# EAGLE library part TMS320F28379DZWTS (library QUAD_ICs)
MCU TMS320F28379D
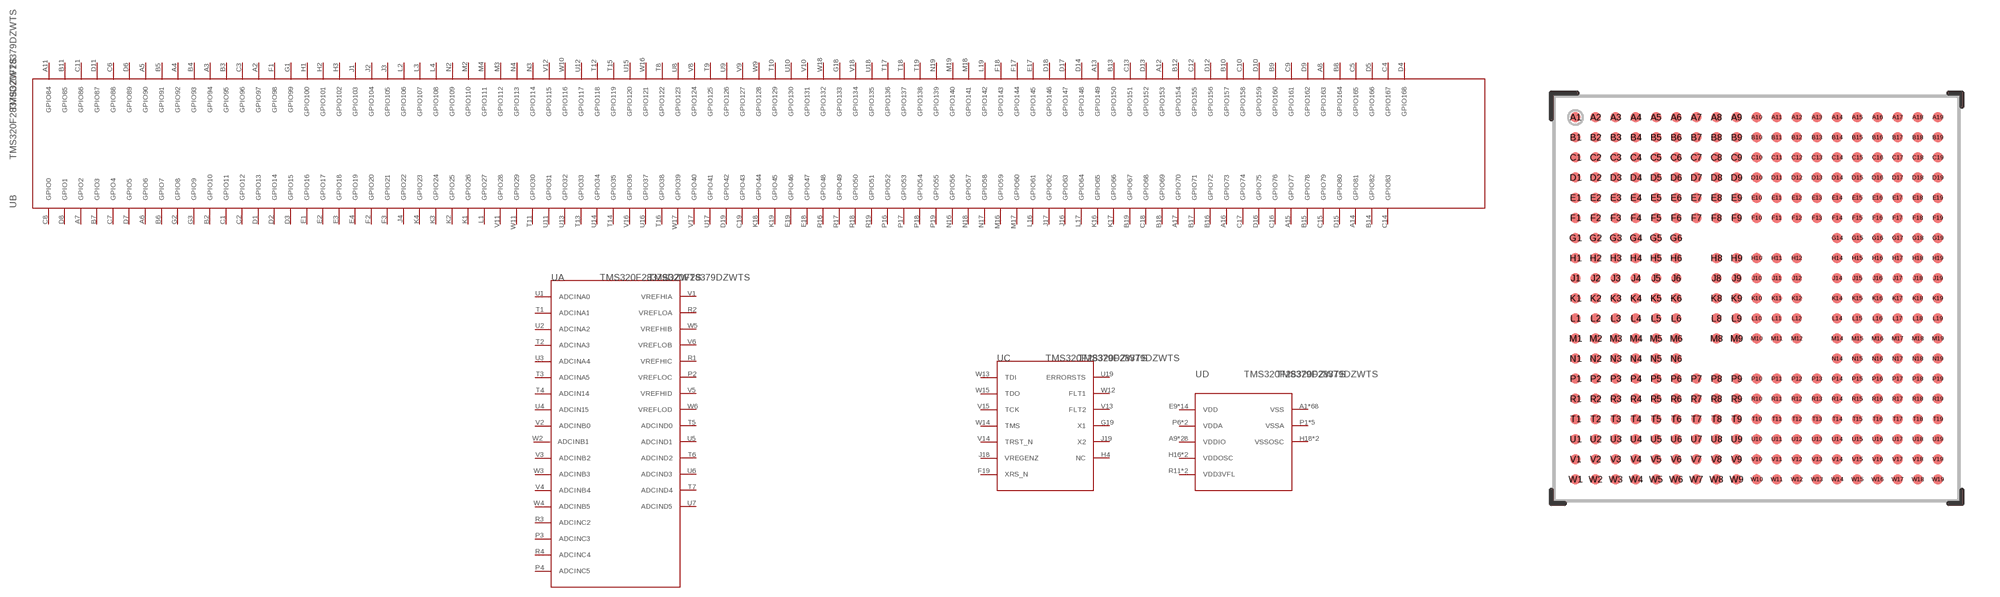
[diagram p5: symbol with the pads of ZWT0337A; footprint ZWT0337A]

Designator prefix U; gates A=TMS320F28379ZWT_A B=TMS320F28379ZWT_B C=TMS320F28379ZWT_C D=TMS320F28379ZWT_D

## TMS320F28379DZWTS (MANUFACTURER: Texas Instruments; PARTNUMBER: TMS320F28379DZWTS; REFDES: RefDes; TYPE: TYPE; VALUE: Value)  [ZWT0337A]
A1  D:VSS  pwr
A2  B:GPIO97
A3  B:GPIO94
A4  B:GPIO92
A5  B:GPIO90
A6  B:GPIO6
A7  B:GPIO2
A8  B:GPIO163
A9  D:VDDIO  pwr
A10  D:VSS  pwr
A11  B:GPIO84
A12  B:GPIO153
A13  B:GPIO149
A14  B:GPIO81
A15  B:GPIO77
A16  B:GPIO73
A17  B:GPIO70
A18  D:VDDIO  pwr
A19  D:VSS  pwr
B1  D:VDDIO  pwr
B2  B:GPIO10
B3  B:GPIO95
B4  B:GPIO93
B5  B:GPIO91
B6  B:GPIO7
B7  B:GPIO3
B8  B:GPIO164
B9  B:GPIO160
B10  B:GPIO157
B11  B:GPIO85
B12  B:GPIO154
B13  B:GPIO150
B14  B:GPIO82
B15  B:GPIO78
B16  B:GPIO72
B17  B:GPIO71
B18  B:GPIO69
B19  B:GPIO67
C1  B:GPIO11
C2  B:GPIO12
C3  B:GPIO96
C4  B:GPIO167
C5  B:GPIO165
C6  B:GPIO88
C7  B:GPIO4
C8  B:GPIO0
C9  B:GPIO161
C10  B:GPIO158
C11  B:GPIO86
C12  B:GPIO155
C13  B:GPIO151
C14  B:GPIO83
C15  B:GPIO79
C16  B:GPIO76
C17  B:GPIO74
C18  B:GPIO68
C19  B:GPIO43
D1  B:GPIO13
D2  B:GPIO14
D3  B:GPIO15
D4  B:GPIO168
D5  B:GPIO166
D6  B:GPIO89
D7  B:GPIO5
D8  B:GPIO1
D9  B:GPIO162
D10  B:GPIO159
D11  B:GPIO87
D12  B:GPIO156
D13  B:GPIO152
D14  B:GPIO148
D15  B:GPIO80
D16  B:GPIO75
D17  B:GPIO147
D18  B:GPIO146
D19  B:GPIO42
E1  B:GPIO16
E2  B:GPIO17
E3  B:GPIO18
E4  B:GPIO19
E5  D:VSS  pwr
E6  D:VSS  pwr
E7  D:VDDIO  pwr
E8  D:VSS  pwr
E9  D:VDD  pwr
E10  D:VDDIO  pwr
E11  D:VDD  pwr
E12  D:VSS  pwr
E13  D:VDDIO  pwr
E14  D:VSS  pwr
E15  D:VSS  pwr
E16  D:VDDIO  pwr
E17  B:GPIO145
E18  B:GPIO47
E19  B:GPIO46
F1  B:GPIO98
F2  B:GPIO20
F3  B:GPIO21
F4  D:VDDIO  pwr
F5  D:VSS  pwr
F6  D:VSS  pwr
F7  D:VDDIO  pwr
F8  D:VSS  pwr
F9  D:VDD  pwr
F10  D:VDDIO  pwr
F11  D:VDD  pwr
F12  D:VSS  pwr
F13  D:VDDIO  pwr
F14  D:VSS  pwr
F15  D:VSS  pwr
F16  D:VDDIO  pwr
F17  B:GPIO144
F18  B:GPIO143
F19  C:XRS_N
G1  B:GPIO99
G2  B:GPIO8
G3  B:GPIO9
G4  D:VDDIO  pwr
G5  D:VDDIO  pwr
G6  D:VDDIO  pwr
G14  D:VDD  pwr
G15  D:VDD  pwr
G16  D:VSS  pwr
G17  D:VSS  pwr
G18  B:GPIO133
G19  C:X1  in
H1  B:GPIO100
H2  B:GPIO101
H3  B:GPIO102
H4  C:NC  pas
H5  D:VDDIO  pwr
H6  D:VDDIO  pwr
H8  D:VSS  pwr
H9  D:VSS  pwr
H10  D:VSS  pwr
H11  D:VSS  pwr
H12  D:VSS  pwr
H14  D:VSS  pwr
H15  D:VSS  pwr
H16  D:VDDOSC  pwr
H17  D:VDDOSC  pwr
H18  D:VSSOSC  pwr
H19  D:VSSOSC  pwr
J1  B:GPIO103
J2  B:GPIO104
J3  B:GPIO105
J4  B:GPIO22
J5  D:VSS  pwr
J6  D:VSS  pwr
J8  D:VSS  pwr
J9  D:VSS  pwr
J10  D:VSS  pwr
J11  D:VSS  pwr
J12  D:VSS  pwr
J14  D:VDD  pwr
J15  D:VDD  pwr
J16  B:GPIO63
J17  B:GPIO62
J18  C:VREGENZ  in
J19  C:X2  out
K1  B:GPIO26
K2  B:GPIO25
K3  B:GPIO24
K4  B:GPIO23
K5  D:VDD  pwr
K6  D:VDD  pwr
K8  D:VSS  pwr
K9  D:VSS  pwr
K10  D:VSS  pwr
K11  D:VSS  pwr
K12  D:VSS  pwr
K14  D:VSS  pwr
K15  D:VSS  pwr
K16  B:GPIO65
K17  B:GPIO66
K18  B:GPIO44
K19  B:GPIO45
L1  B:GPIO27
L2  B:GPIO106
L3  B:GPIO107
L4  B:GPIO108
L5  D:VSS  pwr
L6  D:VSS  pwr
L8  D:VSS  pwr
L9  D:VSS  pwr
L10  D:VSS  pwr
L11  D:VSS  pwr
L12  D:VSS  pwr
L14  D:VDDIO  pwr
L15  D:VDDIO  pwr
L16  B:GPIO61
L17  B:GPIO64
L18  D:VSS  pwr
L19  B:GPIO142
M1  D:VDDIO  pwr
M2  B:GPIO110
M3  B:GPIO112
M4  B:GPIO111
M5  D:VDDIO  pwr
M6  D:VDDIO  pwr
M8  D:VSS  pwr
M9  D:VSS  pwr
M10  D:VSS  pwr
M11  D:VSS  pwr
M12  D:VSS  pwr
M14  D:VSS  pwr
M15  D:VSS  pwr
M16  B:GPIO59
M17  B:GPIO60
M18  B:GPIO141
M19  B:GPIO140
N1  D:VSS  pwr
N2  B:GPIO109
N3  B:GPIO114
N4  B:GPIO113
N5  D:VSS  pwr
N6  D:VSS  pwr
N14  D:VDDIO  pwr
N15  D:VDDIO  pwr
N16  B:GPIO56
N17  B:GPIO58
N18  B:GPIO57
N19  B:GPIO139
P1  D:VSSA  pwr
P2  A:VREFLOC  in
P3  A:ADCINC3  in
P4  A:ADCINC5  in
P5  D:VSSA  pwr
P6  D:VDDA  pwr
P7  D:VSS  pwr
P8  D:VSS  pwr
P9  D:VDDIO  pwr
P10  D:VDD  pwr
P11  D:VSS  pwr
P12  D:VSS  pwr
P13  D:VDD  pwr
P14  D:VSS  pwr
P15  D:VSS  pwr
P16  B:GPIO52
P17  B:GPIO53
P18  B:GPIO54
P19  B:GPIO55
R1  A:VREFHIC  in
R2  A:VREFLOA  in
R3  A:ADCINC2  in
R4  A:ADCINC4  in
R5  D:VSSA  pwr
R6  D:VDDA  pwr
R7  D:VSS  pwr
R8  D:VSS  pwr
R9  D:VDDIO  pwr
R10  D:VDD  pwr
R11  D:VDD3VFL  pwr
R12  D:VDD3VFL  pwr
R13  D:VDD  pwr
R14  D:VSS  pwr
R15  D:VSS  pwr
R16  B:GPIO48
R17  B:GPIO49
R18  B:GPIO50
R19  B:GPIO51
T1  A:ADCINA1  in
T2  A:ADCINA3  in
T3  A:ADCINA5  in
T4  A:ADCIN14  in
T5  A:ADCIND0  in
T6  A:ADCIND2  in
T7  A:ADCIND4  in
T8  B:GPIO122
T9  B:GPIO125
T10  B:GPIO129
T11  B:GPIO30
T12  B:GPIO118
T13  B:GPIO33
T14  B:GPIO35
T15  B:GPIO119
T16  B:GPIO38
T17  B:GPIO136
T18  B:GPIO137
T19  B:GPIO138
U1  A:ADCINA0  in
U2  A:ADCINA2  in
U3  A:ADCINA4  in
U4  A:ADCIN15  in
U5  A:ADCIND1  in
U6  A:ADCIND3  in
U7  A:ADCIND5  in
U8  B:GPIO123
U9  B:GPIO126
U10  B:GPIO130
U11  B:GPIO31
U12  B:GPIO117
U13  B:GPIO32
U14  B:GPIO34
U15  B:GPIO120
U16  B:GPIO37
U17  B:GPIO41
U18  B:GPIO135
U19  C:ERRORSTS  out
V1  A:VREFHIA  in
V2  A:ADCINB0  in
V3  A:ADCINB2  in
V4  A:ADCINB4  in
V5  A:VREFHID  in
V6  A:VREFLOB  in
V7  D:VSSA  pwr
V8  B:GPIO124
V9  B:GPIO127
V10  B:GPIO131
V11  B:GPIO28
V12  B:GPIO115
V13  C:FLT2
V14  C:TRST_N  in
V15  C:TCK  in
V16  B:GPIO36
V17  B:GPIO40
V18  B:GPIO134
V19  D:VDDIO  pwr
W1  D:VSSA  pwr
W2  A:ADCINB1  in
W3  A:ADCINB3  in
W4  A:ADCINB5  in
W5  A:VREFHIB  in
W6  A:VREFLOD  in
W7  D:VSS  pwr
W8  D:VDDIO  pwr
W9  B:GPIO128
W10  B:GPIO116
W11  B:GPIO29
W12  C:FLT1
W13  C:TDI  in
W14  C:TMS  in
W15  C:TDO  out
W16  B:GPIO121
W17  B:GPIO39
W18  B:GPIO132
W19  D:VSS  pwr

## Footprint ZWT0337A (pad centres in mm)
smd 0.4 x 0.4: A1 -7.2,7.2; A2 -6.4,7.2; A3 -5.6,7.2; A4 -4.8,7.2; A5 -4,7.2; A6 -3.2,7.2; A7 -2.4,7.2; A8 -1.6,7.2; A9 -0.8,7.2; A10 0,7.2; A11 0.8,7.2; A12 1.6,7.2; A13 2.4,7.2; A14 3.2,7.2; A15 4,7.2; A16 4.8,7.2; A17 5.6,7.2; A18 6.4,7.2; A19 7.2,7.2; B1 -7.2,6.4; B2 -6.4,6.4; B3 -5.6,6.4; B4 -4.8,6.4; B5 -4,6.4; B6 -3.2,6.4; B7 -2.4,6.4; B8 -1.6,6.4; B9 -0.8,6.4; B10 0,6.4; B11 0.8,6.4; B12 1.6,6.4; B13 2.4,6.4; B14 3.2,6.4; B15 4,6.4; B16 4.8,6.4; B17 5.6,6.4; B18 6.4,6.4; B19 7.2,6.4; C1 -7.2,5.6; C2 -6.4,5.6; C3 -5.6,5.6; C4 -4.8,5.6; C5 -4,5.6; C6 -3.2,5.6; C7 -2.4,5.6; C8 -1.6,5.6; C9 -0.8,5.6; C10 0,5.6; C11 0.8,5.6; C12 1.6,5.6; C13 2.4,5.6; C14 3.2,5.6; C15 4,5.6; C16 4.8,5.6; C17 5.6,5.6; C18 6.4,5.6; C19 7.2,5.6; D1 -7.2,4.8; D2 -6.4,4.8; D3 -5.6,4.8; D4 -4.8,4.8; D5 -4,4.8; D6 -3.2,4.8; D7 -2.4,4.8; D8 -1.6,4.8; D9 -0.8,4.8; D10 0,4.8; D11 0.8,4.8; D12 1.6,4.8; D13 2.4,4.8; D14 3.2,4.8; D15 4,4.8; D16 4.8,4.8; D17 5.6,4.8; D18 6.4,4.8; D19 7.2,4.8; E1 -7.2,4; E2 -6.4,4; E3 -5.6,4; E4 -4.8,4; E5 -4,4; E6 -3.2,4; E7 -2.4,4; E8 -1.6,4; E9 -0.8,4; E10 0,4; E11 0.8,4; E12 1.6,4; E13 2.4,4; E14 3.2,4; E15 4,4; E16 4.8,4; E17 5.6,4; E18 6.4,4; E19 7.2,4; F1 -7.2,3.2; F2 -6.4,3.2; F3 -5.6,3.2; F4 -4.8,3.2; F5 -4,3.2; F6 -3.2,3.2; F7 -2.4,3.2; F8 -1.6,3.2; F9 -0.8,3.2; F10 0,3.2; F11 0.8,3.2; F12 1.6,3.2; F13 2.4,3.2; F14 3.2,3.2; F15 4,3.2; F16 4.8,3.2; F17 5.6,3.2; F18 6.4,3.2; F19 7.2,3.2; G1 -7.2,2.4; G2 -6.4,2.4; G3 -5.6,2.4; G4 -4.8,2.4; G5 -4,2.4; G6 -3.2,2.4; G14 3.2,2.4; G15 4,2.4; G16 4.8,2.4; G17 5.6,2.4; G18 6.4,2.4; G19 7.2,2.4; H1 -7.2,1.6; H2 -6.4,1.6; H3 -5.6,1.6; H4 -4.8,1.6; H5 -4,1.6; H6 -3.2,1.6; H8 -1.6,1.6; H9 -0.8,1.6; H10 0,1.6; H11 0.8,1.6; H12 1.6,1.6; H14 3.2,1.6; H15 4,1.6; H16 4.8,1.6; H17 5.6,1.6; H18 6.4,1.6; H19 7.2,1.6; J1 -7.2,0.8; J2 -6.4,0.8; J3 -5.6,0.8; J4 -4.8,0.8; J5 -4,0.8; J6 -3.2,0.8; J8 -1.6,0.8; J9 -0.8,0.8; J10 0,0.8; J11 0.8,0.8; J12 1.6,0.8; J14 3.2,0.8; J15 4,0.8; J16 4.8,0.8; J17 5.6,0.8; J18 6.4,0.8; J19 7.2,0.8; K1 -7.2,0; K2 -6.4,0; K3 -5.6,0; K4 -4.8,0; K5 -4,0; K6 -3.2,0; K8 -1.6,0; K9 -0.8,0; K10 0,0; K11 0.8,0; K12 1.6,0; K14 3.2,0; K15 4,0; K16 4.8,0; K17 5.6,0; K18 6.4,0; K19 7.2,0; L1 -7.2,-0.8; L2 -6.4,-0.8; L3 -5.6,-0.8; L4 -4.8,-0.8; L5 -4,-0.8; L6 -3.2,-0.8; L8 -1.6,-0.8; L9 -0.8,-0.8; L10 0,-0.8; L11 0.8,-0.8; L12 1.6,-0.8; L14 3.2,-0.8; L15 4,-0.8; L16 4.8,-0.8; L17 5.6,-0.8; L18 6.4,-0.8; L19 7.2,-0.8; M1 -7.2,-1.6; M2 -6.4,-1.6; M3 -5.6,-1.6; M4 -4.8,-1.6; M5 -4,-1.6; M6 -3.2,-1.6; M8 -1.6,-1.6; M9 -0.8,-1.6; M10 0,-1.6; M11 0.8,-1.6; M12 1.6,-1.6; M14 3.2,-1.6; M15 4,-1.6; M16 4.8,-1.6; M17 5.6,-1.6; M18 6.4,-1.6; M19 7.2,-1.6; N1 -7.2,-2.4; N2 -6.4,-2.4; N3 -5.6,-2.4; N4 -4.8,-2.4; N5 -4,-2.4; N6 -3.2,-2.4; N14 3.2,-2.4; N15 4,-2.4; N16 4.8,-2.4; N17 5.6,-2.4; N18 6.4,-2.4; N19 7.2,-2.4; P1 -7.2,-3.2; P2 -6.4,-3.2; P3 -5.6,-3.2; P4 -4.8,-3.2; P5 -4,-3.2; P6 -3.2,-3.2; P7 -2.4,-3.2; P8 -1.6,-3.2; P9 -0.8,-3.2; P10 0,-3.2; P11 0.8,-3.2; P12 1.6,-3.2; P13 2.4,-3.2; P14 3.2,-3.2; P15 4,-3.2; P16 4.8,-3.2; P17 5.6,-3.2; P18 6.4,-3.2; P19 7.2,-3.2; R1 -7.2,-4; R2 -6.4,-4; R3 -5.6,-4; R4 -4.8,-4; R5 -4,-4; R6 -3.2,-4; R7 -2.4,-4; R8 -1.6,-4; R9 -0.8,-4; R10 0,-4; R11 0.8,-4; R12 1.6,-4; R13 2.4,-4; R14 3.2,-4; R15 4,-4; R16 4.8,-4; R17 5.6,-4; R18 6.4,-4; R19 7.2,-4; T1 -7.2,-4.8; T2 -6.4,-4.8; T3 -5.6,-4.8; T4 -4.8,-4.8; T5 -4,-4.8; T6 -3.2,-4.8; T7 -2.4,-4.8; T8 -1.6,-4.8; T9 -0.8,-4.8; T10 0,-4.8; T11 0.8,-4.8; T12 1.6,-4.8; T13 2.4,-4.8; T14 3.2,-4.8; T15 4,-4.8; T16 4.8,-4.8; T17 5.6,-4.8; T18 6.4,-4.8; T19 7.2,-4.8; U1 -7.2,-5.6; U2 -6.4,-5.6; U3 -5.6,-5.6; U4 -4.8,-5.6; U5 -4,-5.6; U6 -3.2,-5.6; U7 -2.4,-5.6; U8 -1.6,-5.6; U9 -0.8,-5.6; U10 0,-5.6; U11 0.8,-5.6; U12 1.6,-5.6; U13 2.4,-5.6; U14 3.2,-5.6; U15 4,-5.6; U16 4.8,-5.6; U17 5.6,-5.6; U18 6.4,-5.6; U19 7.2,-5.6; V1 -7.2,-6.4; V2 -6.4,-6.4; V3 -5.6,-6.4; V4 -4.8,-6.4; V5 -4,-6.4; V6 -3.2,-6.4; V7 -2.4,-6.4; V8 -1.6,-6.4; V9 -0.8,-6.4; V10 0,-6.4; V11 0.8,-6.4; V12 1.6,-6.4; V13 2.4,-6.4; V14 3.2,-6.4; V15 4,-6.4; V16 4.8,-6.4; V17 5.6,-6.4; V18 6.4,-6.4; V19 7.2,-6.4; W1 -7.2,-7.2; W2 -6.4,-7.2; W3 -5.6,-7.2; W4 -4.8,-7.2; W5 -4,-7.2; W6 -3.2,-7.2; W7 -2.4,-7.2; W8 -1.6,-7.2; W9 -0.8,-7.2; W10 0,-7.2; W11 0.8,-7.2; W12 1.6,-7.2; W13 2.4,-7.2; W14 3.2,-7.2; W15 4,-7.2; W16 4.8,-7.2; W17 5.6,-7.2; W18 6.4,-7.2; W19 7.2,-7.2